# Altium integrated library SM3ZS067U310ABR1200.IntLib: 1 symbol
Pins are listed as number, name and electrical type; pins without a type are passive.

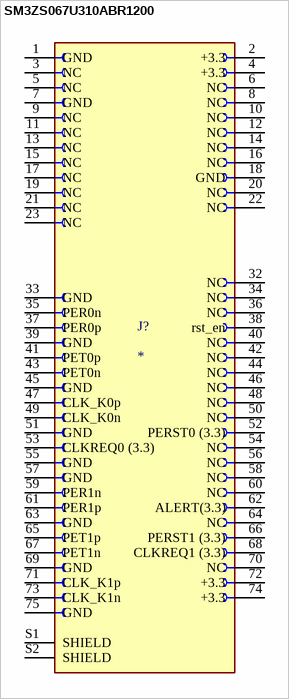
[diagram p0: symbol SM3ZS067U310ABR1200]

## SM3ZS067U310ABR1200
designator J?
67 Position Female Connector M.2 (NGFF) Mini Card Gold 0.020 (0.50mm); MP: SM3ZS067U310ABR1200; MF: JAE Electronics; Availability: Warning; SnapEDA_Link: https://www.snapeda.com/parts/SM3ZS067U310ABR1200/JAE%20Electronics/view-part/652226/?ref=snap; Purchase-URL: https://pricing.snapeda.com/search/part/SM3ZS067U310ABR1200/?ref=eda; Package: None; Check_prices: https://www.snapeda.com/parts/SM3ZS067U310ABR1200/JAE%20Electronics/view-part/652226/?ref=eda; Value: *; Price: None
footprint JAE_SM3ZS067U310ABR1200
pins: 1 GND, 2 +3.3, 3 NC, 4 +3.3, 5 NC, 6 NC, 7 GND, 8 NC, 9 NC, 10 NC, 11 NC, 12 NC, 13 NC, 14 NC, 15 NC, 16 NC, 17 NC, 18 GND, 19 NC, 20 NC, 21 NC, 22 NC, 23 NC, 32 NC, 33 GND, 34 NC, 35 PER0n, 36 NC, 37 PER0p, 38 rst_en, 39 GND, 40 NC, 41 PET0p, 42 NC, 43 PET0n, 44 NC, 45 GND, 46 NC, 47 CLK_K0p, 48 NC, 49 CLK_K0n, 50 NC, 51 GND, 52 PERST0 (3.3), 53 CLKREQ0 (3.3), 54 NC, 55 GND, 56 NC, 57 GND, 58 NC, 59 PER1n, 60 NC, 61 PER1p, 62 ALERT(3.3), 63 GND, 64 NC, 65 PET1p, 66 PERST1 (3.3), 67 PET1n, 68 CLKREQ1 (3.3), 69 GND, 70 NC, 71 CLK_K1p, 72 +3.3, 73 CLK_K1n, 74 +3.3, 75 GND, S1 SHIELD, S2 SHIELD